# Altium schematic symbol library LongNames.SchLib: 2 symbols (part 2 of 3)
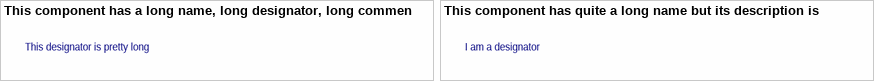
[diagram p1: symbols This component has a long name, long designator, long comment, and long description. Let's see how long we can make this design ID to This component has quite a long name but its description is empty; this should be interesting]

## This component has a long name, long designator, long comment, and long description. Let's see how long we can make this design ID (continued)
Lorem ipsum dolor sit amet, consectetur adipiscing elit. Donec mi elit, blandit quis ipsum vitae, tempor fringilla est. Duis vel sollicitudin lorem. Mauris id sapien eget magna porta pellentesque vitae eget lacus. Curabitur at porttitor neque. Donec non fringilla nulla, in malesuada neque. Suspendisse vitae augue sed ante blandit laoreet nec nec leo. Ut consectetur enim vel purus tempus feugiat. Nam hendrerit orci quis orci gravida aliquet. Nullam quis commodo augue. Cras accumsan diam tellus, ut laoreet erat tempor quis. / Duis vestibulum placerat nibh vitae accumsan. Nullam aliquet tortor sit amet turpis aliquet, quis hendrerit enim eleifend. Donec sit amet tellus ac tellus faucibus volutpat vitae a elit. Nullam auctor, erat quis pharetra elementum, massa justo faucibus tortor, vitae vestibulum urna mauris nec felis. Nam in orci venenatis, ullamcorper nibh vel, pulvinar metus. Aenean id nunc eu ex auctor mattis sed cursus diam. Integer eget dui posuere nisl imperdiet fringilla sit amet et justo. Donec vel laoreet est. Fusce luctus, enim ut tempus tempor, justo nisi condimentum nisi, a placerat turpis nisi vitae enim. Nam et fermentum purus. Aenean placerat lobortis est ut luctus. / Donec sed sodales massa. Integer id justo imperdiet, facilisis ligula at, aliquam neque. Curabitur at tincidunt magna, a congue ante. Aenean at quam vitae neque bibendum placerat eget in urna. Pellentesque habitant morbi tristique senectus et netus et malesuada fames ac turpis egestas. Ut accumsan nunc tellus, ut eleifend velit pharetra eu. Ut sit amet efficitur mauris, at vulputate lorem. Morbi luctus condimentum posuere. Suspendisse consequat quam at maximus lacinia. Proin vitae ante sit amet diam viverra luctus vitae et dolor. Aenean est velit, interdum a sollicitudin quis, dapibus eget tortor. Quisque blandit mauris id augue eleifend fermentum. Cras sodales tristique scelerisque. / Curabitur orci erat, condimentum quis nisl sit amet, auctor sagittis mi. Nam posuere turpis quis egestas molestie. Donec elit urna, vestibulum non tellus ut, lacinia accumsan lectus. Nullam sagittis arcu varius odio malesuada, sed consectetur mi tempus. Curabitur viverra felis in nibh convallis vehicula. Mauris ac nisi ultricies, consequat diam quis, convallis ipsum. Curabitur auctor hendrerit odio, sollicitudin dignissim magna bibendum sit amet. Duis at molestie erat, ut pharetra diam. / Morbi ac velit id ex aliquet faucibus non id sapien. Mauris scelerisque egestas nisi, in cursus mi fringilla ut. Sed eget tortor blandit, semper enim sit amet, luctus tellus. Donec massa ipsum, ullamcorper eget pharetra ac, feugiat ac augue. Curabitur ut odio at erat porttitor vestibulum. Aenean dolor elit, finibus a lorem ut, lacinia vehicula sapien. In a elit tempor, semper nisi nec, tincidunt diam. Cras semper finibus efficitur. Nulla vitae tempor odio. Nulla nibh metus, molestie at tincidunt sed, sollicitudin vitae tellus. / Vivamus pulvinar sem in sem lobortis dignissim. Fusce sem tellus, tincidunt vitae vulputate vitae, bibendum malesuada ipsum. Praesent semper fringilla mauris, vel sollicitudin augue tristique ut. Integer eget efficitur sapien, et tincidunt mauris. Integer ornare varius nulla fringilla molestie. Morbi volutpat, urna vel placerat efficitur, ligula turpis semper massa, non porttitor elit nisl ultricies ipsum. Duis eleifend metus iaculis, rhoncus turpis vel, sagittis mi. Curabitur tempor magna sit amet facilisis vulputate. Donec tincidunt in massa nec lacinia. / Ut sed varius metus, mollis tristique leo. Vivamus feugiat fringilla neque, sit amet auctor nisi dignissim rhoncus. Cras tellus diam, aliquam nec dolor quis, feugiat pulvinar tellus. Nulla facilisi. Integer ac ultricies nisl. Ut ullamcorper tincidunt aliquet. In sollicitudin, turpis ut consequat sodales, sem elit viverra purus, eget dapibus lorem leo elementum dolor. Cras accumsan mi eget lorem consectetur pellentesque. Nullam at porttitor lectus. Suspendisse id fermentum quam. Etiam eu fermentum est. Maecenas luctus ante non lorem volutpat imperdiet. Integer ac bibendum mauris. Sed a augue vehicula, aliquam leo sed, fringilla erat. / Aenean at ligula erat. Nam aliquet rutrum consectetur. Sed varius dolor at fermentum placerat. Lorem ipsum dolor sit amet, consectetur adipiscing elit. Vivamus pretium neque et ultricies gravida. Vestibulum ante ipsum primis in faucibus orci luctus et ultrices posuere cubilia curae; Fusce vitae dictum magna. / Sed semper nibh non nibh porta consequat. Vestibulum gravida tortor ut lectus aliquet, at efficitur lectus scelerisque. Nullam mollis libero sed lacus pharetra, a ultricies nibh consequat. Sed ut dui mollis, pulvinar erat et, rutrum augue. Vestibulum ante ipsum primis in faucibus orci luctus et ultrices posuere cubilia curae; Suspendisse at pretium enim. Cras vel lacinia turpis. Mauris ultricies nunc at lectus fringilla interdum. Pellentesque luctus augue in lorem tincidunt vestibulum. Nullam hendrerit hendrerit tristique. Suspendisse pretium porttitor justo, at feugiat dolor tempus at. Curabitur congue mauris a elit consectetur condimentum. / Curabitur ornare, elit eu interdum porttitor, risus est sollicitudin magna, non mattis lorem nunc quis est. Mauris eget augue vitae justo vulputate molestie. Nulla vitae mattis metus. Integer non magna et mi molestie euismod eget id risus. Maecenas suscipit dolor a justo venenatis feugiat. Vivamus ac lobortis eros. Donec ullamcorper justo feugiat nibh interdum fermentum. Nulla non imperdiet nunc, ut dictum dolor. Fusce id porta nisi, ac scelerisque mauris. Vivamus magna quam, bibendum id mattis a, hendrerit lobortis turpis. Nam euismod vitae augue at dictum. Quisque diam tellus, aliquet in tellus non, convallis aliquam urna. / Class aptent taciti sociosqu ad litora torquent per conubia nostra, per inceptos himenaeos. Ut accumsan pretium est eget egestas. Aliquam molestie nulla non rhoncus commodo. Curabitur et mi justo. Proin auctor orci ligula, et facilisis mi varius quis. Integer nunc ligula, maximus eget nisi ut, feugiat varius lorem. Vestibulum eleifend accumsan ligula non tempus. / Mauris ornare arcu non mauris iaculis pellentesque. Ut pharetra at nisl in faucibus. Vestibulum ante ipsum primis in faucibus orci luctus et ultrices posuere cubilia curae; Curabitur non sem vel sapien blandit bibendum vel sit amet dui. Morbi ut dui nisl. Curabitur lacinia tellus nisl. Nulla a ipsum eu nisi efficitur viverra at et risus. / Suspendisse convallis, risus nec mattis laoreet, sem libero eleifend erat, non imperdiet orci orci eget ante. Sed pretium ac ligula non malesuada. Aenean vel porttitor leo, imperdiet mattis erat. In bibendum turpis quis sollicitudin consequat. Interdum et malesuada fames ac ante ipsum primis in faucibus. Donec ut orci libero. Mauris a pulvinar sapien. In hac habitasse platea dictumst. Aliquam eget purus hendrerit, malesuada libero sit amet, fermentum elit. Maecenas finibus nibh sit amet quam blandit, sed fermentum ex iaculis. Pellentesque rutrum finibus nisi, in scelerisque neque facilisis eget. Praesent sed dui id metus dignissim dignissim sit amet ut orci. Aliquam et est nisl. Maecenas vitae bibendum arcu. Pellentesque tristique nisl ut odio viverra egestas. Etiam in erat sodales, elementum ipsum in, laoreet mauris. / Nullam at mauris lacus. Aliquam vestibulum, neque id fermentum imperdiet, ipsum orci sagittis diam, eget scelerisque erat eros tincidunt turpis. Nunc vel tellus felis. Fusce ac magna sapien. Donec pharetra dui at nibh euismod condimentum. Pellentesque eu elit egestas, placerat libero et, vulputate mi. Phasellus dictum mi quis lectus vehicula imperdiet. Etiam convallis urna nec lacus ultrices tristique. Cras sed felis suscipit, rhoncus dui et, rhoncus leo. Suspendisse cursus augue at nunc accumsan rutrum. Integer sed enim ornare, cursus odio quis, congue mauris. Pellentesque mi massa, iaculis a aliquam sit amet, pretium nec nisi. In sit amet sapien ultricies, malesuada mauris vitae, feugiat mi. Mauris tincidunt vulputate quam et condimentum. Sed vulputate dolor erat, a pharetra orci egestas et. / Suspendisse vel metus interdum ex lacinia efficitur. Donec lacinia ipsum tempor, semper erat ut, auctor justo. Quisque maximus libero justo, at venenatis tortor egestas vitae. Etiam nunc augue, aliquet ac consectetur sit amet, laoreet ut nisl. Nam accumsan sem congue laoreet imperdiet. Integer pretium congue nibh sed tincidunt. Sed faucibus diam vel varius euismod. Sed sit amet lobortis purus. Quisque eget tristique nisi, nec sodales metus. In faucibus, enim sed semper sollicitudin, nunc justo dignissim nunc, ac dictum mi lorem in neque. Sed interdum leo sed tincidunt commodo. Maecenas quam diam, sodales id maximus id, gravida ut lectus. Nunc turpis massa, viverra non diam sed, consectetur pharetra tellus. Sed at consequat metus. Mauris et tincidunt lacus, vel laoreet orci. / Praesent condimentum enim sed augue consectetur porttitor. Suspendisse vehicula interdum erat, non tempor lectus aliquet quis. Donec placerat sit amet ipsum in facilisis. Vivamus tempor sagittis ligula, et eleifend urna luctus vel. Fusce feugiat orci mollis molestie consectetur. In posuere mi turpis, ut faucibus justo congue quis. Phasellus vehicula, libero in maximus tincidunt, nunc risus rutrum ipsum, porta finibus erat lacus at augue. Nullam nisi magna, interdum nec blandit sed, sollicitudin sit amet felis. / In ornare mi vel varius ornare. In dapibus pretium hendrerit. Mauris viverra facilisis orci sed viverra. Vivamus tempus, felis non auctor commodo, orci enim consectetur sapien, vitae aliquam tortor ex non urna. Donec fringilla aliquet eros, id aliquet nibh lobortis sit amet. Sed placerat rutrum elit, vitae auctor odio condimentum id. Etiam cursus cursus odio, aliquam mollis libero dapibus sed. Morbi at erat ac erat porttitor viverra. Fusce lacinia est velit, non euismod massa tempor eu. Duis accumsan porttitor dui, feugiat pretium mi. Donec in eleifend dui. / Nulla ut pharetra arcu. In iaculis vel nulla fringilla consectetur. Cras vitae pulvinar sapien. Duis quis arcu orci. Morbi elementum lacus at est facilisis congue. Sed nunc enim, lacinia vitae nisl a, eleifend accumsan turpis. Quisque ligula sapien, pharetra vel orci ut, tincidunt interdum risus. Suspendisse mattis, ante et mollis finibus, urna nisl mollis velit, quis luctus diam leo non metus. Aliquam vel nibh at turpis venenatis dictum non quis lorem. Ut aliquam nulla id bibendum vestibulum. Sed sit amet nunc non tortor dictum mattis vel vitae leo. Morbi nunc nisi, ultricies a dolor ac, feugiat convallis quam. Donec luctus nulla et tincidunt mollis. Vivamus id ultricies dui. Aenean sed dui sodales, imperdiet nulla eu, pretium metus. / Morbi facilisis velit in sapien lacinia, ac venenatis ante tincidunt. Suspendisse in auctor nisl. Aliquam egestas sem quis sollicitudin feugiat. Integer tincidunt dictum varius. Nunc et tristique massa, et ultrices felis. Ut nec quam vitae felis bibendum aliquet. Lorem ipsum dolor sit amet, consectetur adipiscing elit. Morbi sed tortor ac mauris venenatis condimentum nec et lorem. Quisque in lorem posuere, accumsan libero quis, maximus nisl. / Curabitur sollicitudin blandit sapien in accumsan. Phasellus mattis diam sapien, a vulputate neque bibendum et. In ac libero tempus, consequat justo pretium, lobortis lorem. Morbi pretium massa rutrum sem aliquam, vitae posuere quam lacinia. Suspendisse convallis commodo nulla a viverra. Donec sit amet scelerisque orci, vitae laoreet erat. Integer mollis mi vel sodales aliquam. Nunc in ornare massa. / Morbi venenatis condimentum arcu sit amet laoreet. Cras a elit eu lacus convallis sollicitudin vel a est. Etiam ac metus neque. Etiam interdum ligula nec ante vehicula, sit amet suscipit ante sollicitudin. Quisque sodales risus ut faucibus pharetra. Etiam viverra mollis egestas. Aliquam mollis lorem est. Quisque sit amet lobortis massa, id iaculis massa. / Donec sit amet posuere eros. Duis placerat erat gravida pharetra vehicula. Integer fermentum risus erat, sed tristique mi imperdiet a. Nulla pellentesque libero scelerisque, tincidunt est sit amet, iaculis massa. Sed non imperdiet elit. Morbi sit amet laoreet tellus. Etiam tristique justo vitae diam lobortis, quis luctus dui tincidunt. Fusce fermentum felis sed arcu aliquet, id fringilla diam lacinia. Integer venenatis tortor sapien, at dapibus velit elementum tincidunt. Ut non mauris congue, pellentesque elit eget, varius orci. / Nam id nulla tristique, pulvinar leo quis, viverra nibh. Phasellus condimentum dapibus aliquet. Sed faucibus at metus sit amet ullamcorper. Curabitur semper quam nec sapien congue maximus. Class aptent taciti sociosqu ad litora torquent per conubia nostra, per inceptos himenaeos. Suspendisse commodo rhoncus tellus vel aliquet. Vivamus molestie eleifend ex at fringilla. Sed hendrerit consequat urna, vitae eleifend libero tincidunt non. Nunc et sem sed urna sodales hendrerit et quis orci. Vestibulum sagittis elementum justo eget luctus. Aliquam lacinia elit in ex sagittis, tincidunt imperdiet risus convallis. Praesent turpis massa, imperdiet nec molestie sed, porttitor vel lectus. Donec euismod dapibus mauris ut scelerisque. Donec eu sem et quam auctor posuere quis eget augue. Suspendisse purus tortor, blandit ut tincidunt eget, mollis a leo. / Sed sollicitudin imperdiet consequat. Nunc sed orci justo. Pellentesque convallis nisi nulla, non pharetra nisl lacinia id. Nunc efficitur a nulla ac interdum. Morbi pulvinar, nulla et porta faucibus, dolor urna maximus sem, id dapibus erat felis at leo. Phasellus congue, nulla eu hendrerit tempor, dolor nibh pharetra turpis, sed tristique elit sem vel lacus. Fusce mauris turpis, scelerisque at nibh sed, sollicitudin pellentesque lectus. Vivamus porta urna lacus, viverra tempor neque egestas vitae. Pellentesque semper ligula ac libero ultricies, nec scelerisque metus cursus. Morbi nulla odio, feugiat ut pretium at, convallis a justo. Aenean laoreet nisi nec lacus accumsan, luctus tincidunt velit volutpat. Duis nibh tellus, mollis eu maximus vitae, tincidunt et dui. Maecenas varius ex mattis lectus pharetra, et placerat nunc tristique. Ut sed nisi vel ex bibendum lacinia sit amet quis tortor. Sed viverra, justo sit amet dignissim posuere, ipsum purus vehicula urna, ut dignissim diam purus sed lectus. / Phasellus et scelerisque risus. Sed ut fermentum neque. Aliquam erat volutpat. Fusce quis accumsan odio. Vestibulum eget commodo nisl. Sed vitae erat arcu. Cras et blandit arcu, in lobortis neque. / Cras congue sollicitudin dolor, id faucibus nibh egestas id. Curabitur non nisl neque. Class aptent taciti sociosqu ad litora torquent per conubia nostra, per inceptos himenaeos. Nunc elit libero, tincidunt at nulla tristique, porta commodo purus. Morbi vitae augue urna. Morbi ultricies mi a rhoncus faucibus. Vivamus ultricies, mi vitae cursus venenatis, lectus augue interdum justo, nec sollicitudin eros arcu efficitur felis. Interdum et malesuada fames ac ante ipsum primis in faucibus. Nunc tincidunt vulputate neque sit amet facilisis. Ut ultricies orci eget est venenatis tempus. Quisque mollis mi non accumsan iaculis. / Vestibulum cursus quis dolor lobortis lobortis. Sed ullamcorper ac libero eget elementum. Aliquam et porttitor nisi. Donec pulvinar tincidunt dolor, eget lacinia magna volutpat hendrerit. Sed lorem ex, lacinia at porttitor et, elementum nec ipsum. Cras accumsan non mi ac tempor. Cras viverra in nunc sed ullamcorper. Nullam a odio auctor sem varius vestibulum vel nec nulla. Nunc in justo molestie, congue sem eu, iaculis urna. Maecenas porttitor, metus et gravida tincidunt, turpis nulla mattis mauris, sit amet sollicitudin lacus mi vel orci. Phasellus lacinia diam odio, id euismod felis maximus sed. / Proin finibus fermentum orci, posuere pellentesque nulla pulvinar nec. Nulla porta eros vitae lobortis ultrices. Donec ipsum odio, suscipit id enim eu, mollis aliquet nunc. Nullam eget enim sit amet orci aliquam bibendum ut sit amet metus. Donec porta ipsum ut consequat aliquam. Nulla orci lacus, aliquam vel ultrices nec, hendrerit sed risus. Donec sollicitudin urna in sem tempus, sit amet pretium felis sollicitudin. Ut ligula purus, tristique vitae nisi quis, eleifend porttitor odio. Nam a orci in mi imperdiet tempor. In faucibus malesuada efficitur. Sed fringilla euismod nibh nec hendrerit. Nunc vitae lacus ac lectus vestibulum hendrerit. Aenean et ante suscipit, cursus tortor non, rutrum lorem. / Phasellus vestibulum metus ac velit pellentesque, quis sagittis elit laoreet. Quisque et orci vel felis sagittis malesuada eget eget velit. Cras convallis facilisis lectus, sit amet auctor enim. Curabitur eget tortor volutpat magna porttitor vehicula non vitae tellus. Aliquam auctor dolor quis lorem auctor, vitae scelerisque eros tincidunt. Aliquam et ante vitae ex finibus facilisis quis ac mi. Curabitur interdum posuere tellus at ultricies. Proin hendrerit imperdiet enim, at laoreet mi imperdiet at. Cras non nibh congue, maximus lorem et, dignissim odio. Nunc porttitor turpis nec rutrum convallis. / In lacus dui, ultrices vel lacinia nec, porta vel quam. Aenean mauris ligula, placerat a imperdiet nec, fermentum in lectus. Nulla posuere ultricies turpis ac dapibus. Pellentesque leo leo, pulvinar ut blandit quis, rutrum vel ipsum. Proin sit amet magna congue, commodo nibh vel, sagittis est. In hac habitasse platea dictumst. Phasellus at tellus at enim imperdiet accumsan. Fusce risus ex, convallis ac ante eu, tempus tincidunt massa. Aliquam non malesuada quam. Nam blandit, velit in pharetra gravida, ipsum felis commodo libero, vel varius lorem eros nec ligula. Sed a imperdiet libero. / Quisque ut turpis eu nibh varius volutpat. Sed vehicula a orci quis rhoncus. Praesent ac arcu vitae urna semper rhoncus et in sapien. Mauris vulputate nunc eget metus pulvinar convallis. Quisque lobortis porttitor varius. Ut nec nibh sit amet eros tristique ullamcorper. Donec quis nulla convallis, luctus lacus at, volutpat lectus. Praesent hendrerit ligula in lacus posuere, ac facilisis arcu dictum. Nulla bibendum tempus consectetur. In blandit nibh sit amet massa tincidunt lacinia. Cras porta et turpis sed posuere. Mauris a lacinia orci, vitae pellentesque felis. / In gravida, augue ut fringilla ornare, turpis neque aliquam mauris, in placerat risus lorem ut purus. Cras sed neque ullamcorper, pharetra felis eget, pharetra velit. Quisque aliquet finibus enim sed condimentum. Nullam lobortis quam ultricies, egestas urna in, vehicula tortor. In eget sodales dui. Nulla facilisi. Nunc vehicula consequat justo, non interdum sem interdum a. Nam ut scelerisque erat. Sed fringilla, elit non ullamcorper faucibus, neque lorem pulvinar ipsum, elementum ornare nisi purus fringilla sapien. / Donec aliquam sed enim sed lobortis. Etiam bibendum ipsum non mauris eleifend porttitor. Interdum et malesuada fames ac ante ipsum primis in faucibus. Proin et urna tempus sem fermentum euismod eget non augue. Nunc quis erat gravida, condimentum enim eget, tincidunt urna. Mauris posuere metus sit amet sem consectetur volutpat. Vestibulum convallis ante ut ex mollis facilisis. Lorem ipsum dolor sit amet, consectetur adipiscing elit. Donec id massa nisi. Interdum et malesuada fames ac ante ipsum primis in faucibus. Vivamus tempor orci fringilla ipsum cursus, at consectetur quam varius. / Phasellus id magna laoreet, consectetur orci eu, porttitor quam. Praesent venenatis dictum mauris, sit amet varius est maximus non. Vestibulum faucibus ipsum et tincidunt ultrices. Aenean vulputate dignissim eros. Vestibulum est purus, auctor nec lacus eu, volutpat vehicula nisl. Pellentesque habitant morbi tristique senectus et netus et malesuada fames ac turpis egestas. Nullam auctor felis sit amet porta maximus. Praesent gravida odio diam, eu hendrerit metus tincidunt ac. Integer porta pellentesque massa ut porta. Vivamus mattis risus id posuere dapibus. Aenean ac risus tempus, sagittis libero a, pretium arcu. Integer at diam sit amet nisl elementum tristique ornare et nunc. Quisque dolor dui, pulvinar ut condimentum in, pretium vitae sapien. Sed euismod sodales augue, nec faucibus augue pellentesque ut. Cras in leo nec felis congue euismod. Donec consectetur mi et lectus blandit, quis rutrum quam vehicula. / Curabitur ultricies id tellus nec scelerisque. Nam fermentum finibus nunc, id vehicula turpis aliquet vel. Sed imperdiet risus non sapien volutpat, sed hendrerit est commodo. Mauris ac lacus gravida leo convallis ornare. Donec tristique felis a tellus euismod, vel egestas dolor gravida. Interdum et malesuada fames ac ante ipsum primis in faucibus. Sed cursus diam sed gravida elementum. Fusce vulputate sodales blandit. Integer non lorem ac leo dictum feugiat ac in urna. Quisque dictum sodales scelerisque. Orci varius natoque penatibus et magnis dis parturient montes, nascetur ridiculus mus. Aenean hendrerit mauris in consequat hendrerit. Duis viverra lacus at leo porttitor, ut porta metus maximus. / Aenean non aliquam eros, in pharetra felis. Maecenas posuere est quam, eu iaculis dolor facilisis sit amet. Morbi eu tortor libero. Phasellus finibus pellentesque ligula et auctor. Sed ut blandit arcu, vitae ultrices risus. Donec pretium dignissim nisi. Etiam sollicitudin elit at dui eleifend, id consectetur augue feugiat. Aenean eu quam efficitur, suscipit dui eu, aliquet tellus. Aliquam venenatis turpis quis feugiat pharetra. Aliquam erat volutpat. Morbi consectetur interdum ante. Sed in dolor in nibh dictum ultricies. Aenean tristique mollis enim id vestibulum. Nulla et porta libero, ac volutpat nulla. / Morbi tristique id metus vitae fermentum. Vivamus eu posuere magna. Nunc in ullamcorper dui. Pellentesque porta vehicula scelerisque. Phasellus luctus ipsum dignissim sodales pulvinar. Donec sodales, metus mollis consequat posuere, est tortor dignissim ex, ac tempor eros nulla sed elit. Proin tellus tellus, pellentesque non arcu ut, elementum tempus nibh. Donec tincidunt lobortis urna, nec efficitur sem varius ut. Duis a ipsum interdum, vestibulum tortor ut, rutrum nulla. Aliquam eleifend purus ut erat blandit ultricies. Quisque vehicula vel quam non scelerisque. Etiam vel lobortis arcu. Donec et nibh sollicitudin, sodales mi at, dapibus diam. Fusce dui sapien, condimentum a tellus eu, fringilla vestibulum eros. Nulla congue gravida ex consequat sollicitudin. Morbi eu justo magna. / Integer sit amet laoreet lacus, pellentesque molestie dui. Donec non lorem id arcu facilisis viverra. Orci varius natoque penatibus et magnis dis parturient montes, nascetur ridiculus mus. Aenean dolor lacus, vulputate in erat auctor, mattis interdum neque. Integer leo ligula, gravida eget ex sed, gravida ultricies quam. Nam feugiat, libero et mollis semper, metus quam commodo elit, sed tincidunt dui nisi nec neque. Nam vulputate sapien ipsum, sit amet ultricies massa rutrum eget. Maecenas cursus lacus non sem dignissim varius. Fusce sed lorem lorem. Donec luctus elit id ultricies sodales. Etiam efficitur lectus sapien, a condimentum mauris feugiat vitae. Mauris justo odio, feugiat ut vehicula vitae, tempor eu tortor. Praesent ullamcorper arcu vel nibh euismod pharetra. Ut ornare elementum sapien sed elementum. / Aliquam quis turpis eu tortor euismod tempor a vitae leo. Suspendisse eu ante aliquet, bibendum mauris a, vehicula urna. Integer nibh enim, porttitor in convallis at, euismod at nisl. Curabitur gravida luctus diam porttitor fermentum. Suspendisse sagittis congue urna, non condimentum velit consequat quis. Duis luctus sollicitudin turpis eget auctor. Praesent tempus placerat neque id sollicitudin. Praesent placerat lorem purus, eget dictum mauris fermentum ac. In sit amet lacus non enim congue dignissim sit amet ac lacus. / Cras dictum enim at neque dignissim scelerisque. Aenean nec tellus nisl. Mauris ut quam vitae purus facilisis eleifend. Cras vel augue urna. Etiam maximus orci et venenatis molestie. In hac habitasse platea dictumst. Maecenas hendrerit tempus pretium. Nulla gravida velit lobortis tellus ullamcorper, vel rhoncus nisl tempus. Etiam vel ligula vitae urna fringilla rhoncus quis id arcu. Fusce sollicitudin enim lorem, quis eleifend lectus dapibus sit amet. Vivamus sit amet fringilla magna. Proin et justo consequat, consequat justo nec, posuere neque. Donec at leo ac leo tristique fermentum. Aliquam interdum nisl et viverra dapibus. / Vestibulum dapibus mattis enim, ac bibendum augue. Etiam in tempor odio. Nulla a egestas risus. Morbi interdum vitae leo sed semper. In hac habitasse platea dictumst. Curabitur sit amet tortor at arcu cursus sagittis. Proin vitae cursus quam, et egestas lacus. Fusce volutpat velit lorem, vestibulum fringilla lorem volutpat ut. Donec pretium sapien metus, nec imperdiet turpis ultrices vel. In rutrum eu metus non imperdiet. Praesent neque ante, viverra id condimentum non, auctor quis felis. Sed laoreet diam quis ex molestie, a tristique enim varius. Fusce volutpat, sapien nec tincidunt venenatis, sapien nulla consequat tortor, quis mattis velit odio nec diam. Donec suscipit enim sem, non accumsan tortor dictum id. Praesent risus sem, semper in eleifend id, interdum at nisl. Praesent at tempus eros. / Donec eros lectus, rutrum pretium finibus et, ultrices nec tellus. Nullam eleifend nibh ac elit lacinia dignissim. Phasellus lacinia arcu nec ligula consequat sollicitudin a id diam. Suspendisse suscipit suscipit cursus. Sed eu neque nisi. Proin eget posuere libero. Phasellus mattis nibh sed finibus porta. Integer euismod nisi at odio pellentesque, id placerat nunc vehicula. Nullam id mauris finibus, lobortis libero ut, auctor elit. Etiam interdum neque id nunc egestas, in rhoncus massa gravida. Ut varius quam at sem euismod, eget facilisis ex pharetra. Ut vehicula pharetra nibh, sit amet pharetra sem pharetra at. / Sed sodales sollicitudin elit ac hendrerit. Nunc lacus eros, fermentum et varius feugiat, maximus euismod justo. Phasellus et nunc nisi. Curabitur urna arcu, accumsan sit amet est eu, venenatis ultricies leo. Etiam mi dolor, ultricies vitae massa id, ornare semper arcu. Praesent rhoncus suscipit porttitor. Etiam est libero, dictum sit amet magna a, egestas sollicitudin quam. Morbi ullamcorper mi quis aliquam fringilla. Nunc faucibus elementum nisl, quis cursus leo aliquet eget. Nullam quis elit nibh. Etiam nec odio odio. Sed pellentesque orci vel ultricies lobortis. Ut sit amet lacus nec nisi consequat facilisis at sit amet dolor. Fusce nec velit libero. Nam ut mi vel enim consequat aliquam eget eget turpis. / Nulla volutpat erat ac diam tempor tincidunt. Donec vitae arcu magna. Vivamus in urna ut tortor finibus dictum a et ipsum. Donec rutrum orci a tempor imperdiet. Proin venenatis efficitur nisi, eu varius purus laoreet quis. Pellentesque sed elementum est. Integer ac lacus risus. Proin pellentesque sapien sed lacus egestas commodo. Mauris sit amet tellus condimentum, ultrices nisl vitae, posuere elit. Morbi tristique non tortor mattis feugiat. Aenean lobortis vulputate tempor. / Nam ullamcorper, urna at aliquet fermentum, metus elit tempor mi, eu rutrum orci augue non nibh. Aliquam sed condimentum felis. Nunc nec felis a dolor sagittis fringilla. Morbi porta ex at consequat porttitor. Nulla vel libero accumsan, dapibus tortor nec, aliquam augue. Nunc ac dictum massa. Nam tellus ligula, congue quis efficitur sed, consectetur vitae sapien. Praesent vestibulum sodales pretium. Maecenas iaculis nec mi in convallis. Sed convallis augue quis enim tempor, quis ultricies massa tincidunt. Sed porttitor urna dui, a posuere tortor efficitur a. / Fusce in pretium nisl. Etiam tempor nunc eget ligula facilisis condimentum. Proin pharetra semper lectus, in imperdiet dolor. In vitae metus et nulla mattis viverra ac sit amet arcu. Etiam hendrerit risus quis bibendum eleifend. Cras in dignissim ante, quis aliquam lacus. Donec placerat, libero et fermentum convallis, elit est rutrum odio, et finibus tortor ipsum sed lectus. Pellentesque luctus faucibus felis nec ultrices. Morbi feugiat at erat vitae porta. Phasellus cursus, sem at porta condimentum, massa ligula commodo tellus, vel ornare enim mi eu magna. / Praesent quis lectus quis nunc iaculis tincidunt non a leo. Nam volutpat vitae velit ut lobortis. Sed at justo magna. Morbi neque velit, dictum dictum faucibus et, auctor sed lectus. Nam luctus, purus nec fermentum semper, elit turpis lacinia eros, vitae porttitor mauris nisi accumsan massa. Duis sit amet neque leo. Vivamus sagittis dapibus justo, et ultricies lectus. Sed at eros lobortis dolor ullamcorper cursus. Duis pellentesque sem leo, eu ultricies lorem tincidunt et. Nulla consectetur ligula at tincidunt mollis. Vestibulum bibendum tortor erat, in vestibulum lorem gravida dignissim. Nulla et eros neque. Etiam sed fermentum tortor, sit amet eleifend arcu. Aliquam et nunc eleifend, aliquam erat quis, ornare dui. Morbi eu sem id mauris pellentesque posuere sit amet vitae sem. Vivamus quis justo nisi. / Pellentesque a lectus a elit iaculis tempus sit amet efficitur dui. Donec ultricies quam eget magna semper tincidunt. In pellentesque ac neque ut ultrices. Nam commodo sollicitudin dui, ac tincidunt nulla sollicitudin sit amet. Nullam nulla ante, venenatis semper venenatis at, commodo vitae lacus. Praesent sed sodales mi. Sed nibh ipsum, posuere non ipsum ac, maximus tempus sem. / Etiam sed sem interdum, porta sapien in, tempus mauris. Cras eros neque, suscipit et dapibus a, elementum luctus erat. Nunc quis porta risus. Ut ac elit bibendum, volutpat nunc vel, ornare mauris. Nullam feugiat porttitor ante, nec ornare massa imperdiet nec. In sagittis sem laoreet mi venenatis, ac hendrerit dui condimentum. Fusce nec elementum nibh, quis gravida sapien. Curabitur quis ullamcorper risus. In hac habitasse platea dictumst. Vivamus arcu eros, ullamcorper in nibh finibus, blandit consequat purus. Vestibulum ultricies arcu eget tempor ultrices. Nunc sit amet massa sed elit tristique posuere. Nulla massa sem, sagittis rhoncus consequat sed, interdum in quam. / Nam lobortis neque mi, sit amet sagittis lorem commodo vel. Phasellus ut ultrices libero. Maecenas accumsan lectus sed nulla elementum, et efficitur ex fermentum. Pellentesque sit amet imperdiet orci. Fusce dolor tortor, sollicitudin efficitur massa ac, elementum mattis neque. Aliquam nec erat nunc. Fusce diam nisi, elementum sit amet mauris quis, commodo suscipit quam. Cras varius consectetur nisi, nec cursus dui egestas a. Nullam tincidunt, ligula ut porta molestie, nisl leo porttitor nulla, eget congue nisi nisi ac orci. Cras venenatis fermentum ante, in facilisis tortor porttitor a. Nam id aliquam metus. Aenean semper, nunc ut vestibulum semper, ligula diam pellentesque risus, sit amet laoreet odio justo et nibh. Cras sodales ante accumsan augue tincidunt, nec sagittis nibh fringilla. / Suspendisse potenti. Donec vitae massa dapibus leo lacinia sodales. Nulla condimentum in nunc sed blandit. Ut diam ante, tempor vel fringilla vel, blandit sit amet felis. Integer diam ipsum, tincidunt nec erat vel, mollis placerat diam. Aliquam tempor, sem ac pretium suscipit, mi nisi tempor nibh, in laoreet purus nisi sit amet elit. Integer purus felis, fermentum eget semper et, condimentum et sem. Phasellus non sapien eget orci ultricies tincidunt. Duis metus nunc, ultrices et sollicitudin eu, efficitur sed velit. Proin tempor vitae sem nec semper. Duis mollis diam sollicitudin elit egestas, vitae dictum dolor fringilla. Phasellus eu ligula in neque consectetur imperdiet. Aliquam fringilla lacinia quam, eu pretium dui vestibulum non. Maecenas sit amet venenatis augue, nec ultricies odio. Aenean sollicitudin leo sed nisl iaculis molestie. / Lorem ipsum dolor sit amet, consectetur adipiscing elit. Aenean gravida volutpat ultricies. Duis dolor lectus, aliquet non odio ut, congue iaculis mauris. Maecenas in magna est. Vivamus dictum egestas sem, sit amet ultrices erat faucibus at. Aenean libero sapien, laoreet eu facilisis sed, convallis vel ex. Donec et porta eros. Maecenas nulla ligula, vehicula eget turpis eget, eleifend mollis sapien. Duis quis metus libero. Sed quis eleifend tortor. Phasellus volutpat odio non hendrerit elementum. Etiam lacinia turpis ex, vel vulputate sem fermentum eget. Proin volutpat ante vitae elementum cursus. Sed ut mauris ante. Maecenas pharetra urna sed tellus facilisis rutrum. Sed cursus pellentesque nisl, sit amet dictum felis fermentum vitae. / Phasellus et sem non est dignissim sagittis quis quis mi. Fusce ultrices dolor et turpis bibendum iaculis. Integer id turpis sit amet augue tincidunt egestas. Suspendisse tortor arcu, egestas id sodales id, lobortis sit amet nunc. Mauris fringilla mauris nisl, at vulputate tellus pulvinar at. Phasellus luctus turpis nunc, semper imperdiet neque condimentum sed. Suspendisse in ornare turpis. Donec et eleifend nisl, in molestie felis. / Aliquam finibus nisl ex, at sagittis sem commodo vel. Vestibulum nec suscipit turpis, eu gravida magna. Quisque erat nunc, fringilla et sagittis et, ullamcorper vitae est. Nulla finibus libero elit, nec consectetur libero vehicula ac. Curabitur placerat lorem eu odio tempor, non congue tellus tempus. Sed ut luctus purus, nec ornare mauris. Nam id lorem sit amet nibh fermentum imperdiet id nec enim. Duis non massa ac dolor sollicitudin consectetur. Fusce id sapien laoreet, mattis velit id, viverra enim. Donec eu justo ac tellus cursus iaculis ac quis nunc. Aenean nec nisi eu arcu tincidunt placerat. / Nulla posuere tempor lorem, at gravida velit porta sed. Cras vitae ipsum eget ipsum condimentum luctus nec sed felis. Vestibulum suscipit rhoncus sodales. Mauris non sem in lorem pharetra volutpat sed vitae turpis. Nulla non orci vel sem viverra scelerisque at a ligula. Sed ut mattis lectus. Ut vitae felis vitae massa elementum gravida sit amet eu nunc. Suspendisse sit amet odio gravida, hendrerit lorem id, molestie ex. Cras eu mauris in est mollis sagittis. / Praesent malesuada semper massa quis ornare. Mauris fringilla rhoncus suscipit. Aliquam malesuada, lacus eget commodo tempor, mauris lectus sagittis magna, eu feugiat libero nibh et purus. Donec hendrerit ipsum a enim varius volutpat. Curabitur et volutpat lectus. Nunc fermentum, purus id porta sodales, ipsum quam commodo sapien, eu faucibus leo dui non elit. Maecenas et purus eget quam varius gravida. Cras iaculis lacus velit, sed aliquet sapien posuere sed. Class aptent taciti sociosqu ad litora torquent per conubia nostra, per inceptos himenaeos. Vestibulum volutpat nisi nec lorem auctor convallis. Proin tincidunt neque ante. Nunc neque nibh, mattis in volutpat non, bibendum quis augue. Aenean at enim a felis rhoncus dictum. Vestibulum non bibendum eros, nec gravida libero. Nullam quis neque in diam commodo faucibus ac a orci. / Etiam ut est euismod, sodales dui eget, ornare leo. Curabitur ut ultrices odio. Morbi laoreet pharetra hendrerit. Sed commodo purus purus, id sodales nunc tincidunt eu. Suspendisse potenti. Nunc blandit purus sed lacinia malesuada. Etiam sodales finibus nibh vestibulum pretium. Quisque euismod, justo faucibus rutrum luctus, lorem turpis interdum elit, quis tincidunt magna diam ac libero. / Duis vulputate pretium lacinia. Nulla facilisis augue hendrerit venenatis posuere. Sed in cursus mauris. In eu mi id ex varius sollicitudin. Nam tincidunt pharetra libero. Ut sit amet fermentum eros. Mauris eu ipsum consequat, elementum lorem ac, luctus tortor. Nam lobortis lacinia ligula, in ullamcorper velit aliquet non. Class aptent taciti sociosqu ad litora torquent per conubia nostra, per inceptos himenaeos. Ut non tincidunt purus, id volutpat lorem. Ut et velit et nisl maximus rutrum sit amet vel leo. / In dapibus, nisl non placerat bibendum, enim elit dapibus quam, eu tincidunt ex nisl ut nisi. Vivamus porta neque in nulla finibus, a iaculis tellus gravida. Aenean vestibulum, urna vitae dictum feugiat, arcu odio mollis enim, at varius ante elit sit amet justo. Duis non nisi mattis, vehicula nisi facilisis, consequat eros. Vestibulum blandit egestas lectus quis dapibus. Vivamus molestie sapien in urna convallis dictum. In tincidunt congue accumsan. Pellentesque suscipit molestie lectus interdum cursus. Aliquam nunc tellus, imperdiet at cursus nec, lobortis non dui. Suspendisse justo felis, ornare at velit sed, condimentum venenatis tortor. Phasellus feugiat nisl vel tortor consectetur elementum. Lorem ipsum dolor sit amet, consectetur adipiscing elit. Mauris tempor mauris quis ipsum hendrerit, sit amet consequat dolor varius. / Maecenas felis neque, luctus vitae volutpat a, ullamcorper faucibus augue. Donec sed ultricies turpis. Sed congue sapien vehicula ipsum mattis, ac convallis est mollis. Ut quis leo ligula. Vestibulum ante ipsum primis in faucibus orci luctus et ultrices posuere cubilia curae; Suspendisse ac erat iaculis, euismod dolor vitae, aliquet odio. Aliquam ultrices facilisis turpis quis sollicitudin. Sed pellentesque bibendum feugiat. / Sed at pulvinar mi. Proin porta elit nec vehicula convallis. Donec elit quam, dignissim eu lorem quis, eleifend viverra magna. Sed vel nisi vulputate, tincidunt neque sed, commodo purus. Sed nunc massa, vulputate a ante sed, porta dapibus mauris. Suspendisse sed sagittis purus. Etiam euismod est eu est pellentesque vestibulum. / Nunc ullamcorper justo vel urna finibus porta. Nunc ultricies aliquam mi non ultrices. Duis vestibulum leo sem. Curabitur ac risus a risus facilisis vestibulum id pretium mauris. Vestibulum ante ipsum primis in faucibus orci luctus et ultrices posuere cubilia curae; Proin dignissim sollicitudin nisl, in auctor augue mattis sit amet. Morbi suscipit porttitor ex, sed pharetra nisl commodo blandit. / Curabitur augue odio, volutpat in dui id, ullamcorper pharetra est. Proin placerat malesuada lobortis. Integer id augue volutpat, fringilla massa et, vehicula quam. Nam sed tortor venenatis, luctus nulla vel, maximus justo. Vestibulum sit amet tempor erat. Orci varius natoque penatibus et magnis dis parturient montes, nascetur ridiculus mus. Praesent pulvinar consectetur pretium. Etiam pellentesque tellus ac sagittis mollis. Fusce nec felis nulla. Aliquam accumsan neque id leo venenatis, id condimentum sapien suscipit. / In ut molestie urna. Fusce dignissim lectus ut eleifend ornare. Nulla tincidunt justo magna, vel ultricies erat volutpat vitae. Nullam at euismod lorem, at consectetur diam. Phasellus rhoncus convallis maximus. Sed id enim et justo rhoncus tincidunt. Cras vel bibendum turpis. Suspendisse potenti. Pellentesque habitant morbi tristique senectus et netus et malesuada fames ac turpis egestas. Quisque in facilisis enim. Fusce imperdiet sem ut efficitur facilisis. Aenean dignissim posuere imperdiet. Cras maximus diam ut vehicula luctus. Suspendisse venenatis nisl ut leo vehicula blandit. Etiam sed nulla sed velit aliquet egestas nec rhoncus neque. Phasellus imperdiet auctor faucibus. / Etiam pretium laoreet velit nec pellentesque. Cras id lectus pellentesque, pellentesque diam vel, viverra lorem. Sed tincidunt sed est sit amet dapibus. Nulla facilisi. Vivamus lobortis tristique sapien, sed rhoncus turpis faucibus et. Maecenas finibus mi non tortor convallis pulvinar. Pellentesque laoreet blandit mi, ac porta nisl elementum et. Nam elementum erat libero, eget mattis diam porta nec. Suspendisse ligula velit, egestas nec purus ac, bibendum rutrum justo. Phasellus vitae lectus consequat, porttitor nunc nec, congue ipsum. Vivamus vel dui mauris. Sed ultricies erat tortor, vel sagittis eros dapibus quis. Suspendisse potenti. Nam vel bibendum dolor. In neque tellus, interdum eu nisi non, faucibus pellentesque erat. Sed sagittis felis nisl, vel luctus orci aliquam at. / Nullam eget sem sed dolor sodales sollicitudin quis in nibh. Aenean euismod neque leo, ut maximus mauris consequat eget. Cras in sagittis dui, ut vehicula ligula. Ut quis varius erat. In aliquam laoreet quam, quis bibendum nibh feugiat at. Nulla ut finibus arcu. Donec placerat vestibulum ipsum nec pellentesque. Phasellus tempus ex tellus, ut sollicitudin quam scelerisque at. Etiam volutpat lorem a velit facilisis, a pulvinar felis gravida. Duis non lorem sed lectus lacinia elementum vel et nulla. / Pellentesque et ullamcorper nisl, et tincidunt lacus. Praesent scelerisque enim vel lorem tempus, eu porttitor tellus aliquet. Lorem ipsum dolor sit amet, consectetur adipiscing elit. Integer imperdiet sollicitudin malesuada. Nam dictum eget est eget feugiat. Sed lectus orci, luctus nec mi non, fringilla iaculis erat. In auctor est quis mollis lobortis. In diam risus, sollicitudin quis congue ac, egestas eget eros. Suspendisse scelerisque elit dui, at tempus diam laoreet quis. Mauris nec feugiat nisl, sodales tincidunt mi. Mauris a elementum purus. Vestibulum non aliquet metus. Pellentesque non congue quam. Ut nec quam ut massa porta placerat at nec neque. Fusce eget ligula blandit, porttitor diam consequat, elementum arcu. / Donec varius lorem eget odio egestas, id tristique urna finibus. Vestibulum et augue at ex ultrices aliquet scelerisque a sapien. Phasellus eu vestibulum odio, in suscipit eros. Aenean imperdiet eleifend cursus. Aliquam pulvinar fringilla quam et congue. Praesent quis finibus orci. In hac habitasse platea dictumst. Donec dictum libero a velit malesuada, ac tempor ligula viverra. Morbi a commodo tortor, eget semper quam. Nullam in volutpat urna. Fusce venenatis purus non diam mattis commodo. Vivamus ut tempus arcu, ac vehicula purus. Curabitur tempus dignissim mauris, quis pellentesque dui ultricies eget. Phasellus dictum feugiat diam at ultricies. Aliquam nunc nibh, mattis eget orci sit amet, convallis auctor quam. / Etiam dapibus maximus lacus, vel hendrerit diam blandit et. Sed maximus neque mauris, a aliquet enim pharetra ac. Donec suscipit vel sapien tincidunt condimentum. Aliquam erat volutpat. Sed semper, massa in ultrices aliquet, turpis dui aliquam magna, sed porta lorem nisl vel ligula. Nunc lobortis felis sed ipsum ornare, id dictum tortor accumsan. Aliquam pretium risus orci, a sollicitudin metus pulvinar at. Sed iaculis augue at dapibus rutrum. Sed non sem lacus. Aenean hendrerit dui vel consectetur egestas. Phasellus posuere leo id accumsan ultricies. Vivamus quis sapien vel libero malesuada venenatis. Nullam elementum nunc nisl, eget ultricies ligula convallis non. / Vivamus ac volutpat lorem, eu tempor tortor. Vestibulum ante ipsum primis in faucibus orci luctus et ultrices posuere cubilia curae; Sed scelerisque urna sit amet massa vehicula, eget tincidunt nunc commodo. Phasellus aliquam nisi et finibus dignissim. Integer ligula sapien, rutrum quis vehicula ac, aliquam a ex. Nullam quis viverra ipsum, sodales cursus neque. Nullam malesuada, massa sit amet tincidunt volutpat, eros ex dapibus mauris, at venenatis diam quam non purus. Nullam imperdiet at ligula a sollicitudin. / Praesent mollis ornare est, sed maximus est lacinia ut. Cras gravida libero a eros vulputate faucibus. Etiam porta dictum est, ut suscipit lorem pharetra ut. Curabitur fermentum vulputate vestibulum. Donec lobortis ullamcorper vulputate. Proin et est ex. Fusce augue ligula, malesuada eget metus eu, rhoncus tempus mauris. Nulla at dui eu justo iaculis molestie sit amet vel massa. Class aptent taciti sociosqu ad litora torquent per conubia nostra, per inceptos himenaeos. In aliquam pretium arcu. Nullam eu congue nisi. Mauris pellentesque nunc neque. Fusce id fringilla magna. Morbi vitae eleifend nisi, vitae dapibus mi. Lorem ipsum dolor sit amet, consectetur adipiscing elit. Morbi a ante non augue fringilla vulputate. / Suspendisse et turpis bibendum, luctus ligula nec, malesuada dui. Donec ac ornare velit, lobortis feugiat magna. Cras semper ex ex, sagittis eleifend dui condimentum in. Pellentesque imperdiet porta metus, sit amet tristique turpis venenatis vitae. Nullam elementum, enim sed viverra malesuada, nibh justo consequat est, porttitor lacinia quam diam sed ex. Nullam vehicula sapien nibh, nec vulputate dui volutpat in. Pellentesque facilisis urna in magna ultrices dignissim. Donec tempor pretium feugiat. Vivamus egestas posuere lorem ut faucibus. Nam risus ante, ullamcorper ut dolor sed, aliquam imperdiet erat. Suspendisse quis tincidunt ex. Donec nunc nunc, vulputate eu nibh euismod, tempus scelerisque mi. Etiam ullamcorper malesuada justo, at maximus libero semper quis. Vivamus rhoncus leo a pulvinar lobortis. / Nunc eget tincidunt lorem, non placerat mi. Curabitur vel iaculis erat. Maecenas sed laoreet massa. Cras tincidunt sed nisl tempor facilisis. Aliquam auctor leo vitae neque gravida, quis tempor metus euismod. Vivamus at lacus aliquet, malesuada arcu sed, pharetra quam. Etiam interdum id nibh at aliquam. Aenean dapibus nunc eu dolor iaculis vehicula. Praesent ultricies risus eget quam luctus pharetra. Etiam eros arcu, bibendum ut tempus nec, maximus posuere nulla. Nam sodales tortor in elit malesuada, sit amet aliquam ex molestie. Sed vel convallis justo. Fusce vel odio at mi elementum ornare. Duis pretium lorem quis mauris efficitur, at faucibus nibh rutrum. / Sed et rhoncus ligula. Cras hendrerit sit amet ex eu ullamcorper. Quisque in dui tempus, pellentesque lacus in, blandit nibh. Fusce nibh neque, ultrices et interdum a, venenatis non dolor. Etiam viverra et urna ut facilisis. Nam facilisis semper nunc, in eleifend magna. In sodales faucibus tristique. / Nullam convallis erat dui, in gravida lectus scelerisque rhoncus. Nullam egestas efficitur dignissim. Sed at lobortis mauris, non scelerisque diam. Etiam et faucibus metus. Maecenas eleifend neque sed venenatis feugiat. Curabitur sodales ullamcorper mattis. Nam elementum sapien eu laoreet pellentesque. Nam venenatis ipsum elit, nec egestas justo lacinia id. Proin mollis sagittis risus, quis sagittis dui laoreet sit amet. Duis quis magna tempor, convallis ex eget, mattis ipsum. Mauris lobortis dapibus magna, eu rhoncus nunc porttitor lobortis. Suspendisse sem tortor, commodo vel nunc sit amet, rutrum sollicitudin sapien. Pellentesque sed urna sit amet ante blandit elementum et nec nisi. Praesent quis ex dolor. / Suspendisse rhoncus tortor sit amet porttitor placerat. Praesent convallis diam quis massa pharetra, at bibendum lectus vehicula. Vestibulum lobortis eget ipsum et elementum. Praesent varius dapibus condimentum. Fusce eget diam ultricies enim efficitur pharetra vel a quam. Fusce eget purus justo. Pellentesque auctor rhoncus dui eu porta. Nullam laoreet non urna id feugiat. / Phasellus in feugiat ipsum, et molestie est. Fusce porttitor tellus faucibus libero tristique sollicitudin. Phasellus eu sem in velit tincidunt fermentum. Praesent bibendum in dui eu consequat. Vestibulum mollis magna eget commodo convallis. Praesent elementum volutpat bibendum. Nulla leo mauris, fermentum vitae massa id, interdum auctor purus. Donec leo nisi, efficitur ut tellus sit amet, venenatis egestas mi. Quisque maximus porta est, eu maximus leo congue vel. Nullam vel turpis non tellus ultrices pretium. Proin euismod libero quis dolor dignissim euismod. Duis a ipsum blandit, iaculis nulla ut, scelerisque ex. Quisque in neque sit amet lorem faucibus molestie vel sit amet ex. / Fusce sed velit nunc. Maecenas quis semper urna. Duis ex velit, dignissim vitae nisi eu, condimentum dignissim felis. Vestibulum eu erat turpis. Duis non risus at libero placerat molestie sed a dolor. Mauris vitae nunc et urna pharetra elementum. Vestibulum ante ipsum primis in faucibus orci luctus et ultrices posuere cubilia curae; Curabitur turpis lorem, imperdiet ac lectus at, blandit laoreet tortor. Morbi imperdiet, ligula eget molestie consectetur, elit est laoreet nunc, placerat pharetra magna enim sit amet mi. Sed cursus sed velit eget dignissim. / Praesent ultrices, lacus in eleifend fringilla, odio ante euismod mauris, at pharetra libero enim sit amet lacus. Praesent id finibus velit. Nulla egestas arcu a pretium vehicula. Nam a scelerisque quam. Aliquam a pretium tellus. Nulla fringilla faucibus pellentesque. Donec urna justo, fringilla sit amet mi at, cursus dignissim tortor. Fusce sit amet scelerisque libero. Quisque suscipit risus eget rhoncus finibus. Ut viverra tristique vehicula. In fermentum luctus diam vel dictum. Integer sapien erat, tempor nec sem vel, ultricies scelerisque libero. Phasellus a ipsum at ex aliquet molestie quis quis est. Nunc velit orci, rutrum at finibus quis, tincidunt non tortor. Vestibulum commodo consectetur euismod. Fusce consectetur lobortis arcu, iaculis convallis dolor placerat sed. / Integer quis cursus tortor, a elementum lorem. Mauris auctor auctor risus a sodales. Donec eleifend varius luctus. Duis dapibus ante nisi, ut dapibus lorem efficitur quis. Donec eleifend imperdiet ullamcorper. Morbi vitae imperdiet magna, vitae mollis orci. Maecenas eu felis mauris. Nullam quis mollis lacus, varius elementum eros. Aliquam quam erat, lobortis id tellus in, efficitur vestibulum dolor. Proin quis neque consectetur, finibus enim in, interdum lacus. Quisque et dolor ut sapien rutrum gravida. Fusce pulvinar risus et magna dapibus, vitae consectetur ligula pulvinar. Integer fringilla viverra nulla, eu bibendum metus imperdiet ac. / Nulla in sapien libero. Integer molestie fermentum elit. Integer nisi erat, feugiat et sapien vitae, lacinia dictum nibh. Mauris euismod massa nec lectus lacinia, sit amet lobortis arcu feugiat. Morbi pretium magna vitae nisi congue auctor. Nulla quis mi quis est pulvinar facilisis quis id magna. Etiam dapibus, risus nec placerat facilisis, nisl tortor vehicula augue, sed sollicitudin velit purus sed ante. Sed dictum est justo, eget egestas dolor feugiat ac. Pellentesque ipsum lectus, dictum vel diam sollicitudin, semper ornare nibh. Vestibulum tellus nunc, tincidunt non tempor quis, sollicitudin sit amet tellus. Suspendisse elementum magna ac leo ornare ornare. Mauris sapien ante, sollicitudin facilisis elit ac, ornare scelerisque leo. Nulla facilisi. Suspendisse ipsum ligula, pretium